# Altium footprint library IPEXint1.PcbLib: 1 footprints
Each footprint in its own frame and in the unit in brackets; x right, y up, seen from the top. Pads: shape width x height; smd on the part's side, far side on the other; paste and mask are expansions set on the pad; w line width, h text height; cw(c..) or ccw(c..) is an arc to the next point about the centre after c.
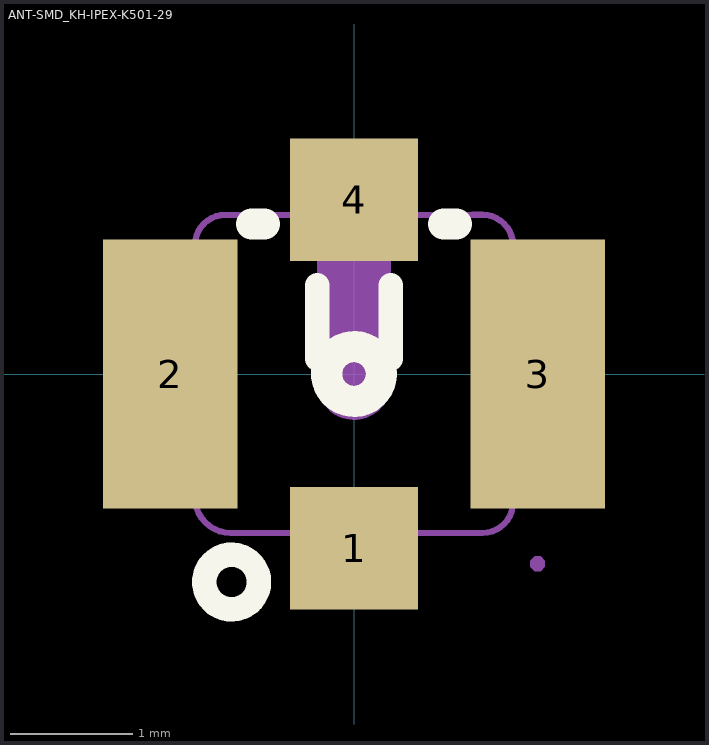
[diagram p0: the footprint, top view; thin cyan lines are the x and y axes]

## ANT-SMD_KH-IPEX-K501-29 [mm]
pads (4):
  rect 1.05x1 smd: 1(0,-1.425) 4(0,1.425)
  rect 1.1x2.2 smd: 2(-1.5,0) 3(1.5,0)
Top Overlay:
  circle w0.254: c0,0 r0.224
  circle w0.2: c-1,-1.7 r0.224
  lines w0.2: -0.3,0.125 -0.3,0.725 ; 0.3,0.125 0.3,0.725
  lines w0.254: -0.837,1.225 -0.731,1.225 ; 0.731,1.225 0.837,1.225
Mechanical 6:
  circle w0.2: c-0.3,-1.625 r0.1
  circle w0.3: c0,-0.075 r0.15
  region: -0.3,0.925 -0.3,-0.075 0.3,-0.075 0.3,0.925
Mechanical 15:
  region: 1.5,-1.491 1.475,-1.491 1.44,-1.526 1.44,-1.576 1.475,-1.611 1.5,-1.611 1.525,-1.611 1.56,-1.576 1.56,-1.526 1.525,-1.491 1.5,-1.491
  region: -1.05,0.9 -1.05,-0.9 -1.5,-0.9 -1.5,0.9
  region: 1.05,-0.9 1.05,0.9 1.5,0.9 1.5,-0.9
  region: -0.3,-1 0.3,-1 0.3,-1.551 -0.3,-1.551
  region: 0.3,1.201 -0.3,1.201 -0.3,1.651 0.3,1.651
  lines w0.051: 1.051,-1.299 ccw(c1.051,-1.05) 1.299,-1.05 1.299,-1.045 ccw(c1.299,-1.044) 1.3,-1.044 1.3,1.051 ccw(c1.05,1.051) 1.05,1.301 0.97,1.301 -1.048,1.3 -1.052,1.3 ccw(c-1.052,1.053) -1.299,1.053 -1.299,-0.924 cw(c-1.3,-0.924) -1.3,-0.925 -1.3,-1.007 ccw(c-1.008,-1.007) -1.008,-1.299 1.051,-1.299 ; 1.051,-1.299 1.051,-1.299
3D body "IPEX内针1代.SLDPRT": height 1.25, standoff 0, extent -1.477,-1.548 1.504,1.552